# EAGLE library part HRP5_9V_REG (library thanics_robotics)
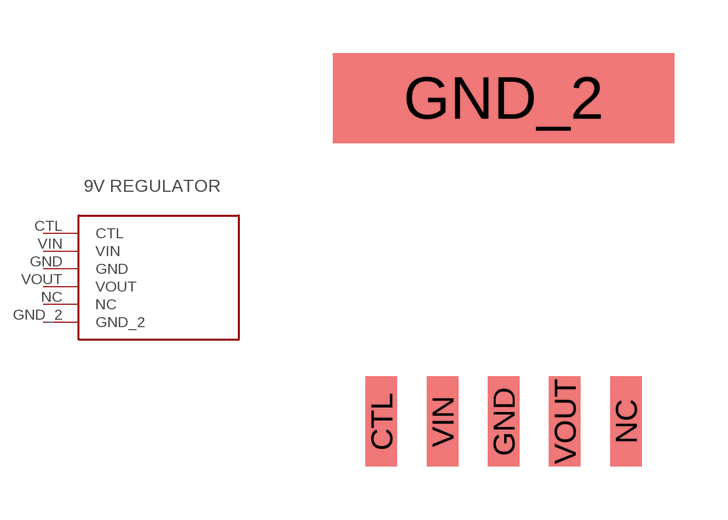
[diagram p3: symbol with the pads of HRP5_9V_REG; footprint HRP5_9V_REG]

Designator prefix -

## HRP5_9V_REG  [HRP5_9V_REG]
CTL  CTL
GND  GND  pwr
GND_2  GND_2  pwr
NC  NC  nc
VIN  VIN  pwr
VOUT  VOUT  pwr

## Footprint HRP5_9V_REG (pad centres in mm)
smd 0.889 x 2.54: CTL -3.454,0; GND 0,0; NC 3.454,0; VIN -1.727,0; VOUT 1.727,0
smd 9.652 x 2.54: GND_2 0,9.144